# EAGLE library part TXB0101DCKR (library TXB0101DCKR)
Texas Instruments TXB0101DCKR, Voltage Level Translator, 3-State, 1.2 3.6 V, 1.65 5.5 V, 6-Pin SC-70 Source: Datasheet <http://www.ti.com/lit/gpn/txb0101>
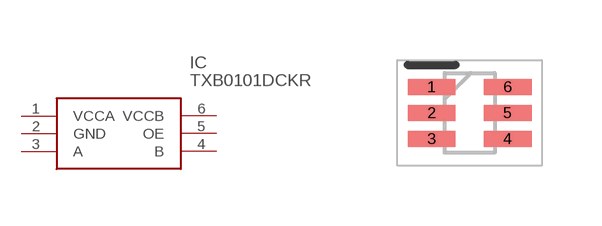
[diagram p0: symbol with the pads of SOT65P210X110-6N; footprint SOT65P210X110-6N]

Designator prefix IC

## TXB0101DCKR (Arrow_Part_Number: TXB0101DCKR; Arrow_Price-Stock: https://www.arrow.com/en/products/txb0101dckr/texas-instruments; Description: Texas Instruments TXB0101DCKR, Voltage Level Translator, 3-State, 1.2 3.6 V, 1.65 5.5 V, 6-Pin SC-70; Height: 1.1mm; Manufacturer_Name: Texas Instruments; Manufacturer_Part_Number: TXB0101DCKR; Mouser_Part_Number: 595-TXB0101DCKR; Mouser_Price-Stock: https://www.mouser.co.uk/ProductDetail/Texas-Instruments/TXB0101DCKR?qs=dqESbKqT1ja7in%2FiCwfNsg%3D%3D)  [SOT65P210X110-6N]
1  VCCA
2  GND
3  A
4  B
5  OE
6  VCCB

## Footprint SOT65P210X110-6N (pad centres in mm)
dck
smd 1.2 x 0.4: 1 -0.95,0.65; 2 -0.95,0; 3 -0.95,-0.65; 4 0.95,-0.65; 5 0.95,0; 6 0.95,0.65